# EAGLE library part IC-TP4056 (library - Jins eagle lbr)
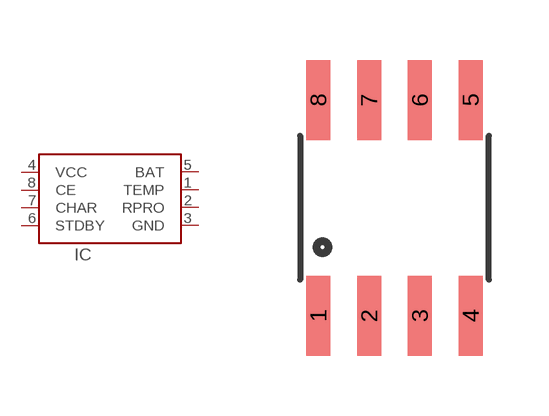
[diagram p17: symbol with the pads of SOP-08; footprint SOP-08]

Designator prefix IC

## IC-TP4056TP  [SOP-08]
1  TEMP
2  RPRO
3  GND
4  VCC
5  BAT
6  STDBY
7  CHAR
8  CE

## Footprint SOP-08 (pad centres in mm)
smd 0.6 x 2: 1 -1.905,-2.7; 2 -0.635,-2.7; 3 0.635,-2.7; 4 1.905,-2.7; 5 1.905,2.7; 6 0.635,2.7; 7 -0.635,2.7; 8 -1.905,2.7